# Altium footprint library PcbLib1.PcbLib: 38 footprints (part 3 of 3)
Each footprint in its own frame and in the unit in brackets; x right, y up, seen from the top. Pads: shape width x height; smd on the part's side, far side on the other; paste and mask are expansions set on the pad; w line width, h text height; cw(c..) or ccw(c..) is an arc to the next point about the centre after c.
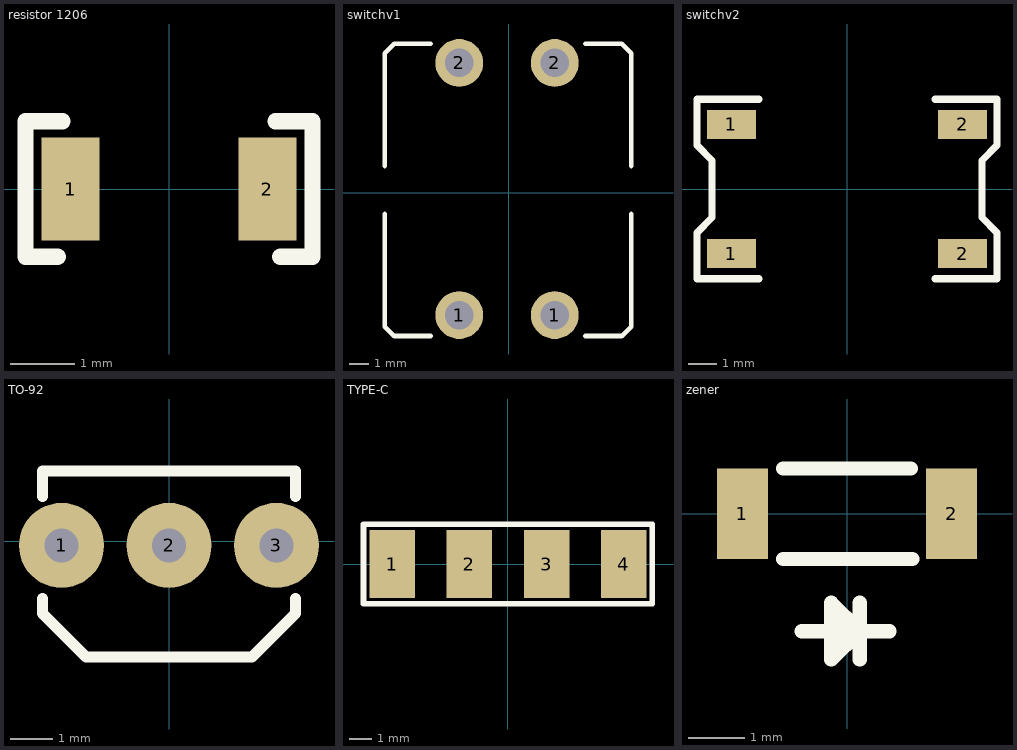
[diagram p2: the footprints below, top view; thin cyan lines are the x and y axes]

## resistor 1206 [mm]
pads (2):
  rect 0.9x1.6 smd: 1(-1.525,0) 2(1.525,0)
Top Overlay:
  lines w0.254: -2.225,-1.05 -1.725,-1.05 ; -2.225,-1.025 -2.225,1.051 -1.65,1.051 ; 1.65,1.051 2.225,1.051 2.225,-1.025 ; 1.725,-1.05 2.225,-1.05
3D body "STEP_AP214_SMD resistor 1206 (Imperial Size Code) - base model (no value).stp": height 0.56, standoff 0, extent -1.55,-0.8 1.55,0.8

## switchv1 [mm]
pads (4):
  round 2.5 hole 1.5: 1(-2.6,-6.4) 1(2.4,-6.4) 2(-2.6,6.8) 2(2.4,6.8)
Top Overlay:
  lines w0.254: -6.5,-1.1 -6.5,-7 -6,-7.5 -4.1,-7.5 ; -6.5,1.4 -6.5,7.3 -6,7.8 -4.1,7.8 ; 4,-7.5 5.9,-7.5 6.4,-7 6.4,-1.1 ; 4,7.8 5.9,7.8 6.4,7.3 6.4,1.4
Mechanical 1:
  lines w0.254: -3.425,6.7 -2.55,6.7
3D body "FSM100.step": height 5.41, standoff -2.5, extent -6.1,-6.9 5.9,7.2

## switchv2 [mm]
pads (4):
  rect 1.7x1 smd: 1(-4.025,-2.25) 1(-4.025,2.25) 2(4.025,-2.25) 2(4.025,2.25)
Top Overlay:
  lines w0.254: -3.075,-3.125 -5.225,-3.125 -5.225,-1.519 -4.7,-0.994 -4.7,0.994 -5.225,1.519 -5.225,3.125 -3.075,3.125 ; 3.075,-3.125 5.225,-3.125 5.225,-1.519 4.7,-0.994 4.7,0.994 5.225,1.519 5.225,3.125 3.075,3.125
3D body "SW-DTSM-61N-V.stp": height 4.3, standoff 0, extent -4.5,-3 4.5,3

## TO-92 [mm]
pads (3):
  round 2 hole 0.8: 1(-2.525,-0.1) 2(0,-0.1) 3(2.525,-0.1)
Top Overlay:
  lines w0.254: -2.975,-1.35 -2.975,-1.7 -1.95,-2.725 1.95,-2.725 2.975,-1.7 2.975,-1.35 ; -2.975,1.05 -2.975,1.65 2.975,1.65 2.975,1.05
3D body "TO92.step": height 7.7, standoff -2, extent -2.84,-2.4 2.84,1.5

## TYPE-C [mm]
pads (4):
  rect 2x3 smd: 1(-5.1,0) 2(-1.7,0) 3(1.7,0) 4(5.1,0)
Top Overlay:
  lines w0.254: -6.358,-1.75 6.35,-1.75 6.35,-1.725 6.35,1.75 6.325,1.75 6.3,1.75 -6.358,1.75 -6.358,-1.75

## zener [mm]
pads (2):
  rect 0.9x1.6 smd: 1(-1.85,0) 2(1.85,0)
Top Overlay:
  lines w0.254: -1.125,-0.8 1.15,-0.8 ; -1.125,0.8 1.125,0.8 ; -0.8,-2.075 0.75,-2.075 ; -0.025,-2.325 -0.192,-2.158 -0.025,-1.825 ; 0.225,-2.575 0.225,-2.075 ; 0.225,-1.575 0.225,-2.075 ; 0.225,-2.075 -0.275,-1.575 -0.275,-2.575 0.225,-2.075
3D body "DO-213AA-RED.stp": height 1.6, standoff 0, extent -1.85,-0.786 1.85,0.786